# EAGLE library part ACRK-16-01-X-X-B1-P-X (library hsk_2012)
1.3A / pin Achtung, Pinbelegung prüfen, evtl. --S-- Variante benutzen
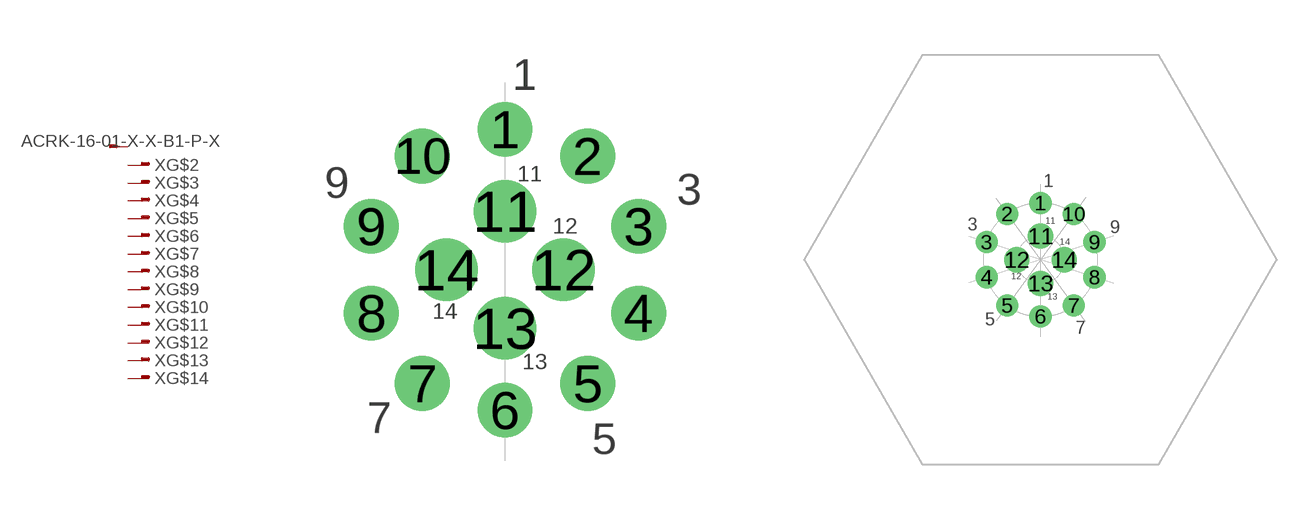
[diagram p41: symbol with the pads of ACRK-16-01-X-T-B1-X-X; footprints ACRK-16-01-X-T-B1-X-X, ACRK-16-01-X-S-B1-X-X]

Designator prefix X; gates G$1=SINGLE_PAD G$2=CON G$3=CON G$4=CON G$5=CON G$6=CON G$7=CON G$8=CON G$9=CON G$10=CON G$11=CON G$12=CON G$13=CON G$14=CON

## ACRK-16-01-X-X-B1-P-X_T  [ACRK-16-01-X-T-B1-X-X]
1  G$1:1
2  G$2:CON
3  G$3:CON
4  G$4:CON
5  G$5:CON
6  G$6:CON
7  G$7:CON
8  G$8:CON
9  G$9:CON
10  G$10:CON
11  G$11:CON
12  G$12:CON
13  G$13:CON
14  G$14:CON

## ACRK-16-01-X-X-B1-P-X_S  [ACRK-16-01-X-S-B1-X-X]
Pads as for ACRK-16-01-X-T-B1-X-X

## Footprint ACRK-16-01-X-T-B1-X-X (pad centres in mm)
1.3 A / pin Achtung, Pinbelegung prüfen, evtl. --S-- Variante benutzen
drill 0.89 pad 1.4: 1 0,3.6; 2 2.117,2.912; 3 3.425,1.113; 4 3.425,-1.112; 5 2.117,-2.913; 6 0.001,-3.599; 7 -2.117,-2.913; 8 -3.424,-1.113; 9 -3.425,1.113; 10 -2.117,2.913
drill 0.89 pad 1.6: 11 0.001,1.501; 12 1.501,0.001; 13 0,-1.5; 14 -1.5,0.001

## Footprint ACRK-16-01-X-S-B1-X-X (pad centres in mm)
1.3 A / pin Achtung, Pinbelegung prüfen, evtl. --S-- Variante benutzen
drill 0.89 pad 1.4: 1 0,3.6; 2 -2.117,2.913; 3 -3.425,1.113; 4 -3.424,-1.113; 5 -2.117,-2.913; 6 0.001,-3.599; 7 2.117,-2.913; 8 3.425,-1.112; 9 3.425,1.113; 10 2.117,2.912
drill 0.89 pad 1.6: 11 0.001,1.501; 12 -1.5,0.001; 13 0,-1.5; 14 1.501,0.001